# EAGLE library part ACS712-LC (library allegro-2)
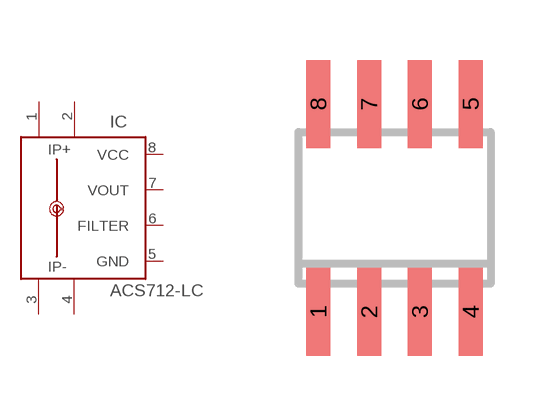
[diagram p11: symbol with the pads of SOIC8; footprint SOIC8]

Designator prefix IC

## ACS712-LC  [SOIC8]
1  IP+  pas
2  IP+1  pas
3  IP-  pas
4  IP-1  pas
5  GND  pwr
6  FILTER
7  VOUT  out
8  VCC  pwr

## Footprint SOIC8 (pad centres in mm)
smd 0.6 x 2.2: 1 -1.905,-2.6; 2 -0.635,-2.6; 3 0.635,-2.6; 4 1.905,-2.6; 5 1.905,2.6; 6 0.635,2.6; 7 -0.635,2.6; 8 -1.905,2.6